# Altium footprint library T-Type Converter.PcbLib: 34 footprints (part 3 of 3)
Each footprint in its own frame and in the unit in brackets; x right, y up, seen from the top. Pads: shape width x height; smd on the part's side, far side on the other; paste and mask are expansions set on the pad; w line width, h text height; cw(c..) or ccw(c..) is an arc to the next point about the centre after c.
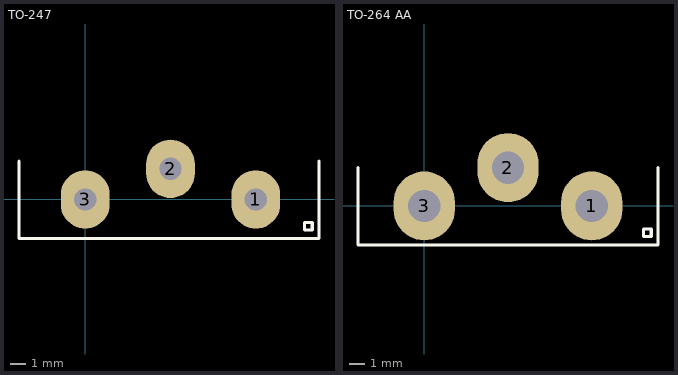
[diagram p2: the footprints below, top view; thin cyan lines are the x and y axes]

## TO-247 [mil] "MOSFET Package"
pads (3):
  oval 125x150 hole 57: 1(437.8,0) 2(218.9,78.74) 3(0,0)
Top Overlay:
  lines w7.87: -170.08,98.43 -170.08,-100 600,-100 600,98.43 ; 562.99,-78.74 562.99,-59.06 582.68,-59.06 582.68,-78.74 562.99,-78.74

## TO-264 AA [mm] "Power Mosfet"
pads (3):
  oval 4x4.5 hole 2.108: 1(10.92,0) 2(5.46,2.5) 3(0,0)
Top Overlay:
  lines w0.2: -4.32,2.5 -4.32,-2.54 15.24,-2.54 15.24,2.5 ; 14.3,-2 14.8,-2 14.8,-1.5 14.3,-1.5 14.3,-2